# Altium integrated library NRF7002-QFAA-R7.IntLib: 1 symbol
Pins are listed as number, name and electrical type; pins without a type are passive.

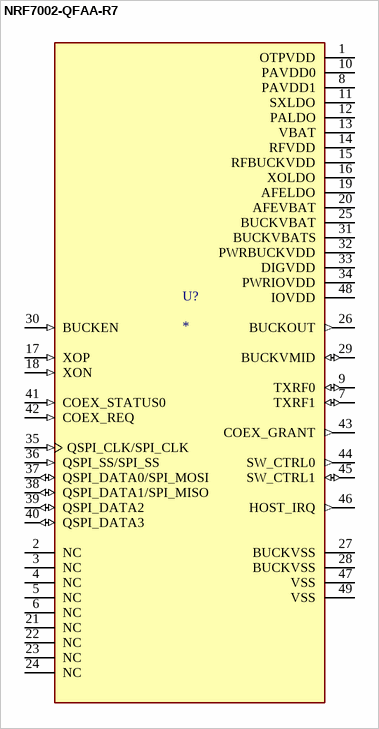
[diagram p0: symbol NRF7002-QFAA-R7]

## NRF7002-QFAA-R7
designator U?
IC RF TxRx Only WiFi 802.11a/b/g/-c/ax, Bluetooth, GPS 2.4GHz, 5GHz 48-VFQFN Exposed Pad; MF: Nordic Semiconductors; MP: NRF7002-QFAA-R7; SnapEDA_Link: https://www.snapeda.com/parts/NRF7002-QFAA-R7/Nordic+Power/view-part/?ref=snap; Package: None; Value: *; Check_prices: https://www.snapeda.com/parts/NRF7002-QFAA-R7/Nordic+Power/view-part/?ref=eda
footprint IC_NRF7002-QFAA-R7
pins: 1 OTPVDD (power), 2 NC, 3 NC, 4 NC, 5 NC, 6 NC, 7 TXRF1 (io), 8 PAVDD1 (power), 9 TXRF0 (io), 10 PAVDD0 (power), 11 SXLDO (power), 12 PALDO (power), 13 VBAT (power), 14 RFVDD (power), 15 RFBUCKVDD (power), 16 XOLDO (power), 17 XOP (in), 18 XON (in), 19 AFELDO (power), 20 AFEVBAT (power), 21 NC, 22 NC, 23 NC, 24 NC, 25 BUCKVBAT (power), 26 BUCKOUT (out), 27 BUCKVSS (power), 28 BUCKVSS (power), 29 BUCKVMID (io), 30 BUCKEN (in), 31 BUCKVBATS (power), 32 PWRBUCKVDD (power), 33 DIGVDD (power), 34 PWRIOVDD (power), 35 QSPI_CLK/SPI_CLK (in), 36 QSPI_SS/SPI_SS (in), 37 QSPI_DATA0/SPI_MOSI (io), 38 QSPI_DATA1/SPI_MISO (io), 39 QSPI_DATA2 (io), 40 QSPI_DATA3 (io), 41 COEX_STATUS0 (in), 42 COEX_REQ (in), 43 COEX_GRANT (out), 44 SW_CTRL0 (out), 45 SW_CTRL1 (io), 46 HOST_IRQ (out), 47 VSS (power), 48 IOVDD (power), 49 VSS (power)